# EAGLE library part 687128183622 (library Eagle_FPC_CONNECTOR_AND_FFC_CAB (rev18c))
687128183622 WR-FPC 0.50mm SMT Horizontal Top Contact - Low Profile <http://katalog.we-online.de/media/images/v2/Family_WR-FPC_6871xx183622.jpg> Details see: http://katalog.we-online.de/en/em/FPC_0_5_SMT_ZIF_HORIZONTAL_TOP_CONTACT_LOW_PROFILE_6871xx183622 Created by Yingchun,shan 2016 (C) Wurth Elektronik
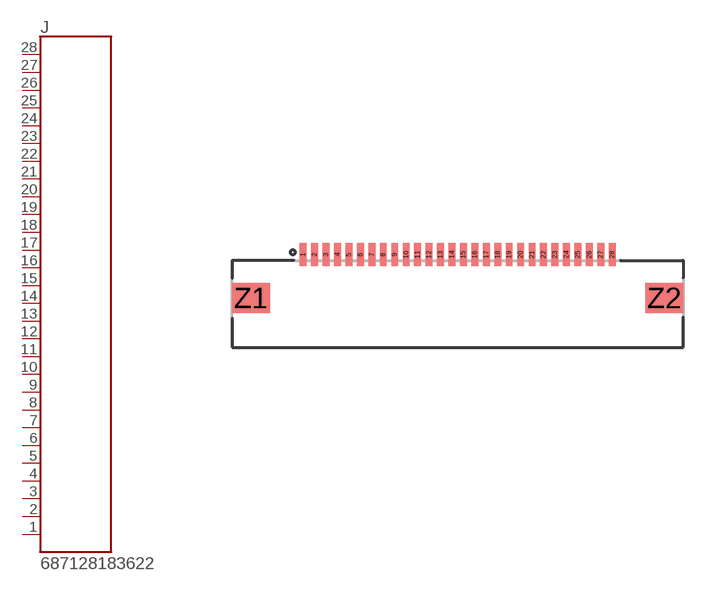
[diagram p187: symbol with the pads of 687128183622; footprint 687128183622]

Designator prefix J

## 687128183622  [687128183622]
1  28  pas
2  27  pas
3  26  pas
4  25  pas
5  24  pas
6  23  pas
7  22  pas
8  21  pas
9  20  pas
10  19  pas
11  18  pas
12  17  pas
13  16  pas
14  15  pas
15  14  pas
16  13  pas
17  12  pas
18  11  pas
19  10  pas
20  9  pas
21  8  pas
22  7  pas
23  6  pas
24  5  pas
25  4  pas
26  3  pas
27  2  pas
28  1  pas

## Footprint 687128183622 (pad centres in mm)
smd 0.3 x 1: 1 -6.75,1.9; 2 -6.25,1.9; 3 -5.75,1.9; 4 -5.25,1.9; 5 -4.75,1.9; 6 -4.25,1.9; 7 -3.75,1.9; 8 -3.25,1.9; 9 -2.75,1.9; 10 -2.25,1.9; 11 -1.75,1.9; 12 -1.25,1.9; 13 -0.75,1.9; 14 -0.25,1.9; 15 0.25,1.9; 16 0.75,1.9; 17 1.25,1.9; 18 1.75,1.9; 19 2.25,1.9; 20 2.75,1.9; 21 3.25,1.9; 22 3.75,1.9; 23 4.25,1.9; 24 4.75,1.9; 25 5.25,1.9; 26 5.75,1.9; 27 6.25,1.9; 28 6.75,1.9
smd 1.65 x 1.3: Z1 -9.025,0; Z2 9.025,0